# Altium schematic symbol library 2021-06-17_02-46-35.SchLib: 2 symbols
Pins are listed as number, name and electrical type; pins without a type are passive.

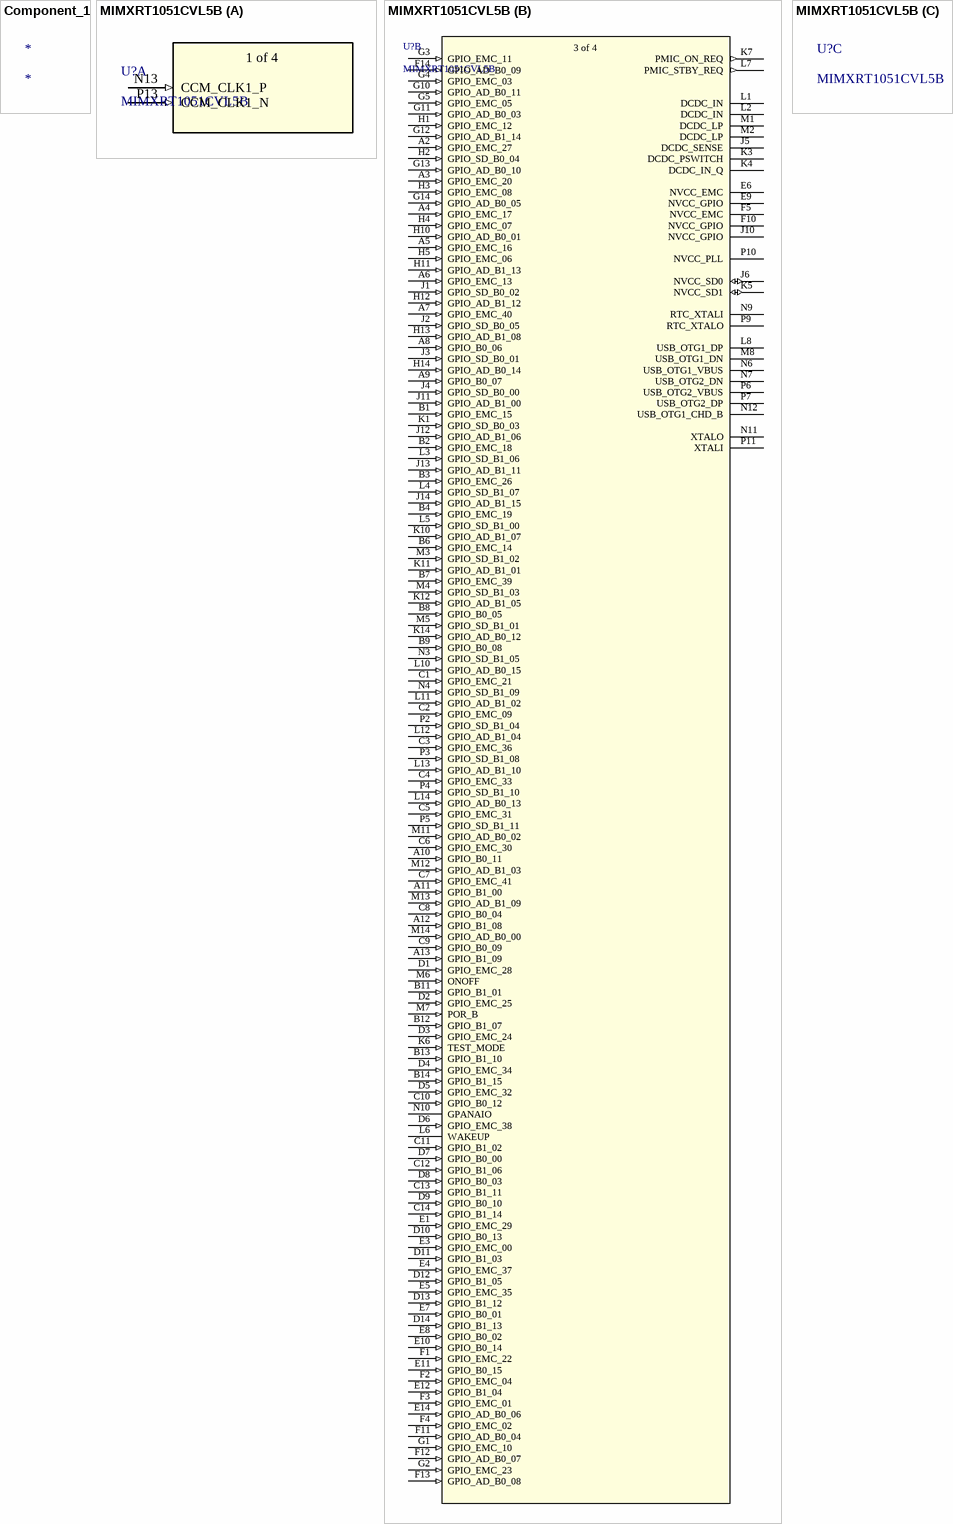
[diagram p0: symbols Component_1 to MIMXRT1051CVL5B]

## Component_1
designator *

## MIMXRT1051CVL5B
designator U?
No Description Available; SourceLibrary: NXP_2018-03-02; Built_By: EMA_Rebekah; Vendor: NXP; Copyright: Copyright (C) 2016 Accelerated Designs. All rights reserved; Manufacturer_Part_Number: MIMXRT1051CVL5B; RefDes: RefDes; Type: DEV
footprint MAPBGA196_10X10_NXP
part A pins: N13 CCM_CLK1_P (in), P13 CCM_CLK1_N (in)
part B pins: A2 GPIO_EMC_27 (in), A3 GPIO_EMC_20 (in), A4 GPIO_EMC_17 (in), A5 GPIO_EMC_16 (in), A6 GPIO_EMC_13 (in), A7 GPIO_EMC_40 (in), A8 GPIO_B0_06 (in), A9 GPIO_B0_07 (in), A10 GPIO_B0_11 (in), A11 GPIO_B1_00 (in), A12 GPIO_B1_08 (in), A13 GPIO_B1_09 (in), B1 GPIO_EMC_15 (in), B2 GPIO_EMC_18 (in), B3 GPIO_EMC_26 (in), B4 GPIO_EMC_19 (in), B6 GPIO_EMC_14 (in), B7 GPIO_EMC_39 (in), B8 GPIO_B0_05 (in), B9 GPIO_B0_08 (in), B11 GPIO_B1_01 (in), B12 GPIO_B1_07 (in), B13 GPIO_B1_10 (in), B14 GPIO_B1_15 (in), C1 GPIO_EMC_21 (in), C2 GPIO_EMC_09 (in), C3 GPIO_EMC_36 (in), C4 GPIO_EMC_33 (in), C5 GPIO_EMC_31 (in), C6 GPIO_EMC_30 (in), C7 GPIO_EMC_41 (in), C8 GPIO_B0_04 (in), C9 GPIO_B0_09 (in), C10 GPIO_B0_12 (in), C11 GPIO_B1_02 (in), C12 GPIO_B1_06 (in), C13 GPIO_B1_11 (in), C14 GPIO_B1_14 (in), D1 GPIO_EMC_28 (in), D2 GPIO_EMC_25 (in), D3 GPIO_EMC_24 (in), D4 GPIO_EMC_34 (in), D5 GPIO_EMC_32 (in), D6 GPIO_EMC_38 (in), D7 GPIO_B0_00 (in), D8 GPIO_B0_03 (in), D9 GPIO_B0_10 (in), D10 GPIO_B0_13 (in), D11 GPIO_B1_03 (in), D12 GPIO_B1_05 (in), D13 GPIO_B1_12 (in), D14 GPIO_B1_13 (in), E1 GPIO_EMC_29 (in), E3 GPIO_EMC_00 (in), E4 GPIO_EMC_37 (in), E5 GPIO_EMC_35 (in), E6 NVCC_EMC, E7 GPIO_B0_01 (in), E8 GPIO_B0_02 (in), E9 NVCC_GPIO, E10 GPIO_B0_14 (in), E11 GPIO_B0_15 (in), E12 GPIO_B1_04 (in), E14 GPIO_AD_B0_06 (in), F1 GPIO_EMC_22 (in), F2 GPIO_EMC_04 (in), F3 GPIO_EMC_01 (in), F4 GPIO_EMC_02 (in), F5 NVCC_EMC, F10 NVCC_GPIO, F11 GPIO_AD_B0_04 (in), F12 GPIO_AD_B0_07 (in), F13 GPIO_AD_B0_08 (in), F14 GPIO_AD_B0_09 (in), G1 GPIO_EMC_10 (in), G2 GPIO_EMC_23 (in), G3 GPIO_EMC_11 (in), G4 GPIO_EMC_03 (in), G5 GPIO_EMC_05 (in), G10 GPIO_AD_B0_11 (in), G11 GPIO_AD_B0_03 (in), G12 GPIO_AD_B1_14 (in), G13 GPIO_AD_B0_10 (in), G14 GPIO_AD_B0_05 (in), H1 GPIO_EMC_12 (in), H2 GPIO_SD_B0_04 (in), H3 GPIO_EMC_08 (in), H4 GPIO_EMC_07 (in), H5 GPIO_EMC_06 (in), H10 GPIO_AD_B0_01 (in), H11 GPIO_AD_B1_13 (in), H12 GPIO_AD_B1_12 (in), H13 GPIO_AD_B1_08 (in), H14 GPIO_AD_B0_14 (in), J1 GPIO_SD_B0_02 (in), J2 GPIO_SD_B0_05 (in), J3 GPIO_SD_B0_01 (in), J4 GPIO_SD_B0_00 (in), J5 DCDC_SENSE, J6 NVCC_SD0 (io), J10 NVCC_GPIO, J11 GPIO_AD_B1_00 (in), J12 GPIO_AD_B1_06 (in), J13 GPIO_AD_B1_11 (in), J14 GPIO_AD_B1_15 (in), K1 GPIO_SD_B0_03 (in), K3 DCDC_PSWITCH, K4 DCDC_IN_Q, K5 NVCC_SD1 (io), K6 TEST_MODE (in), K7 PMIC_ON_REQ (out), K10 GPIO_AD_B1_07 (in), K11 GPIO_AD_B1_01 (in), K12 GPIO_AD_B1_05 (in), K14 GPIO_AD_B0_12 (in), L1 DCDC_IN, L2 DCDC_IN, L3 GPIO_SD_B1_06 (in), L4 GPIO_SD_B1_07 (in), L5 GPIO_SD_B1_00 (in), L6 WAKEUP, L7 PMIC_STBY_REQ (out), L8 USB_OTG1_DP, L10 GPIO_AD_B0_15 (in), L11 GPIO_AD_B1_02 (in), L12 GPIO_AD_B1_04 (in), L13 GPIO_AD_B1_10 (in), L14 GPIO_AD_B0_13 (in), M1 DCDC_LP, M2 DCDC_LP, M3 GPIO_SD_B1_02 (in), M4 GPIO_SD_B1_03 (in), M5 GPIO_SD_B1_01 (in), M6 ONOFF (in), M7 POR_B (in), M8 USB_OTG1_DN, M11 GPIO_AD_B0_02 (in), M12 GPIO_AD_B1_03 (in), M13 GPIO_AD_B1_09 (in), M14 GPIO_AD_B0_00 (in), N3 GPIO_SD_B1_05 (in), N4 GPIO_SD_B1_09 (in), N6 USB_OTG1_VBUS, N7 USB_OTG2_DN, N9 RTC_XTALI, N10 GPANAIO, N11 XTALO, N12 USB_OTG1_CHD_B, P2 GPIO_SD_B1_04 (in), P3 GPIO_SD_B1_08 (in), P4 GPIO_SD_B1_10 (in), P5 GPIO_SD_B1_11 (in), P6 USB_OTG2_VBUS, P7 USB_OTG2_DP, P9 RTC_XTALO, P10 NVCC_PLL, P11 XTALI
part A text: 1 of 4
part B text: 3 of 4